# Altium footprint library 2019-08-29_03-26-37.PcbLib: 1 footprints
Each footprint in its own frame and in the unit in brackets; x right, y up, seen from the top. Pads: shape width x height; smd on the part's side, far side on the other; paste and mask are expansions set on the pad; w line width, h text height; cw(c..) or ccw(c..) is an arc to the next point about the centre after c.
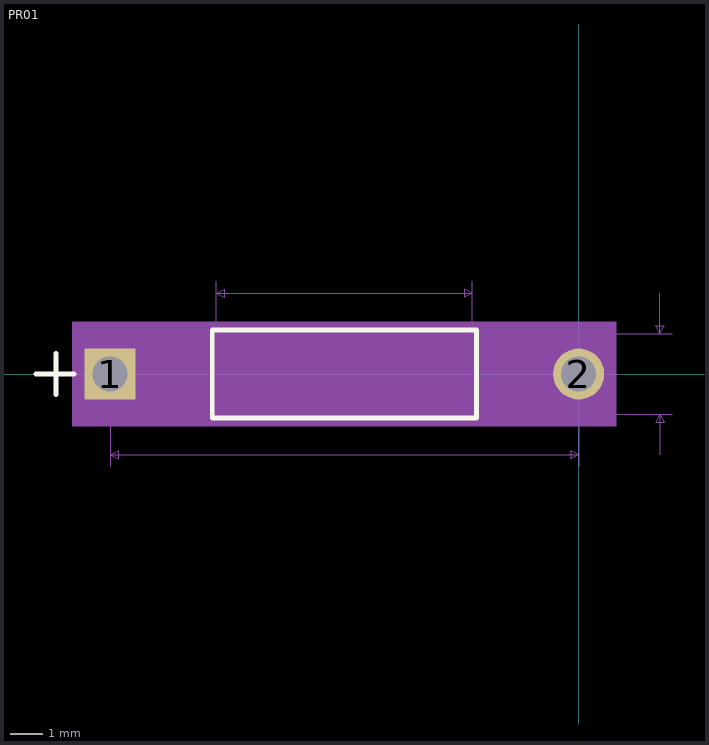
[diagram p0: the footprint, top view; thin cyan lines are the x and y axes]

## PR01 [mil]
pads (2):
  rect 62.68x62.68 hole 43 mask+0: 1(-576.38,0)
  round 62.68 hole 43 mask+0: 2(0,0)
Top Overlay:
  lines w6: -667.72,0 -620.82,0 ; -642.72,-25 -642.72,25 ; -450.67,-54.21 -125.71,-54.21 -125.71,54.21 -450.67,54.21 -450.67,-54.21
Mechanical 5:
  region: 46.34,-64.21 -622.72,-64.21 -622.72,64.21 46.34,64.21
Mechanical 7:
  lines w1: -576.38,-114.21 -576.38,0 ; -445.67,49.21 -445.67,114.21 ; -130.71,-49.21 115,-49.21 ; -130.71,114.21 -130.71,49.21 115,49.21 ; 0,-114.21 0,0 ; 100,-99.21 100,-49.21 ; 100,99.21 100,49.21 ; -576.38,-99.21 0,-99.21 ; -576.38,-99.21 -566.38,-94.21 -566.38,-104.21 -576.38,-99.21 ; -445.67,99.21 -130.71,99.21 ; -445.67,99.21 -435.67,104.21 -435.67,94.21 -445.67,99.21 ; -130.71,99.21 -140.71,104.21 -140.71,94.21 -130.71,99.21 ; 0,-99.21 -10,-94.21 -10,-104.21 0,-99.21 ; 100,-49.21 95,-59.21 105,-59.21 100,-49.21 ; 100,49.21 95,59.21 105,59.21 100,49.21
  text "Pin 1 Pad Style: s159h108" at -600.69,-262.68 h50
  text "Default Pad Style: c159h108" at -625.69,-337.68 h50
  text "Alt 1 Pad Style: b152_229h76" at -638.19,-412.68 h50
  text "Alt 2 Pad Style: b229_152h76" at -638.19,-487.68 h50
  text "0.098in/2.5mm" at 120,-12.5 h25
  text "0.576in/14.64mm" at -381.94,-144.21 h25
  text "0.315in/8mm" at -356.94,119.21 h25
Mechanical 13:
  lines w1: -667.72,0 -617.72,0 ; -642.72,-25 -642.72,25 ; -576.38,0 -445.67,0 ; -130.71,0 0,0 ; -445.67,-49.21 -130.71,-49.21 -130.71,49.21 -445.67,49.21 -445.67,-49.21
Mechanical 15:
  region: -455.67,-41.34 -617.72,-41.34 -617.72,41.34 -455.67,41.34 -455.67,59.21 -120.71,59.21 -120.71,41.34 41.34,41.34 41.34,-41.34 -120.71,-41.34 -120.71,-59.21 -455.67,-59.21
  lines w6: -617.72,-41.34 -617.72,41.34 -455.67,41.34 -455.67,59.21 -120.71,59.21 -120.71,41.34 41.34,41.34 41.34,-41.34 -120.71,-41.34 -120.71,-59.21 -455.67,-59.21 -455.67,-41.34 -617.72,-41.34
3D body: height 10, standoff 0, extent 0,0 10,10